# Altium schematic symbol library carrot_lib.SchLib: 176 symbols (part 2 of 3)
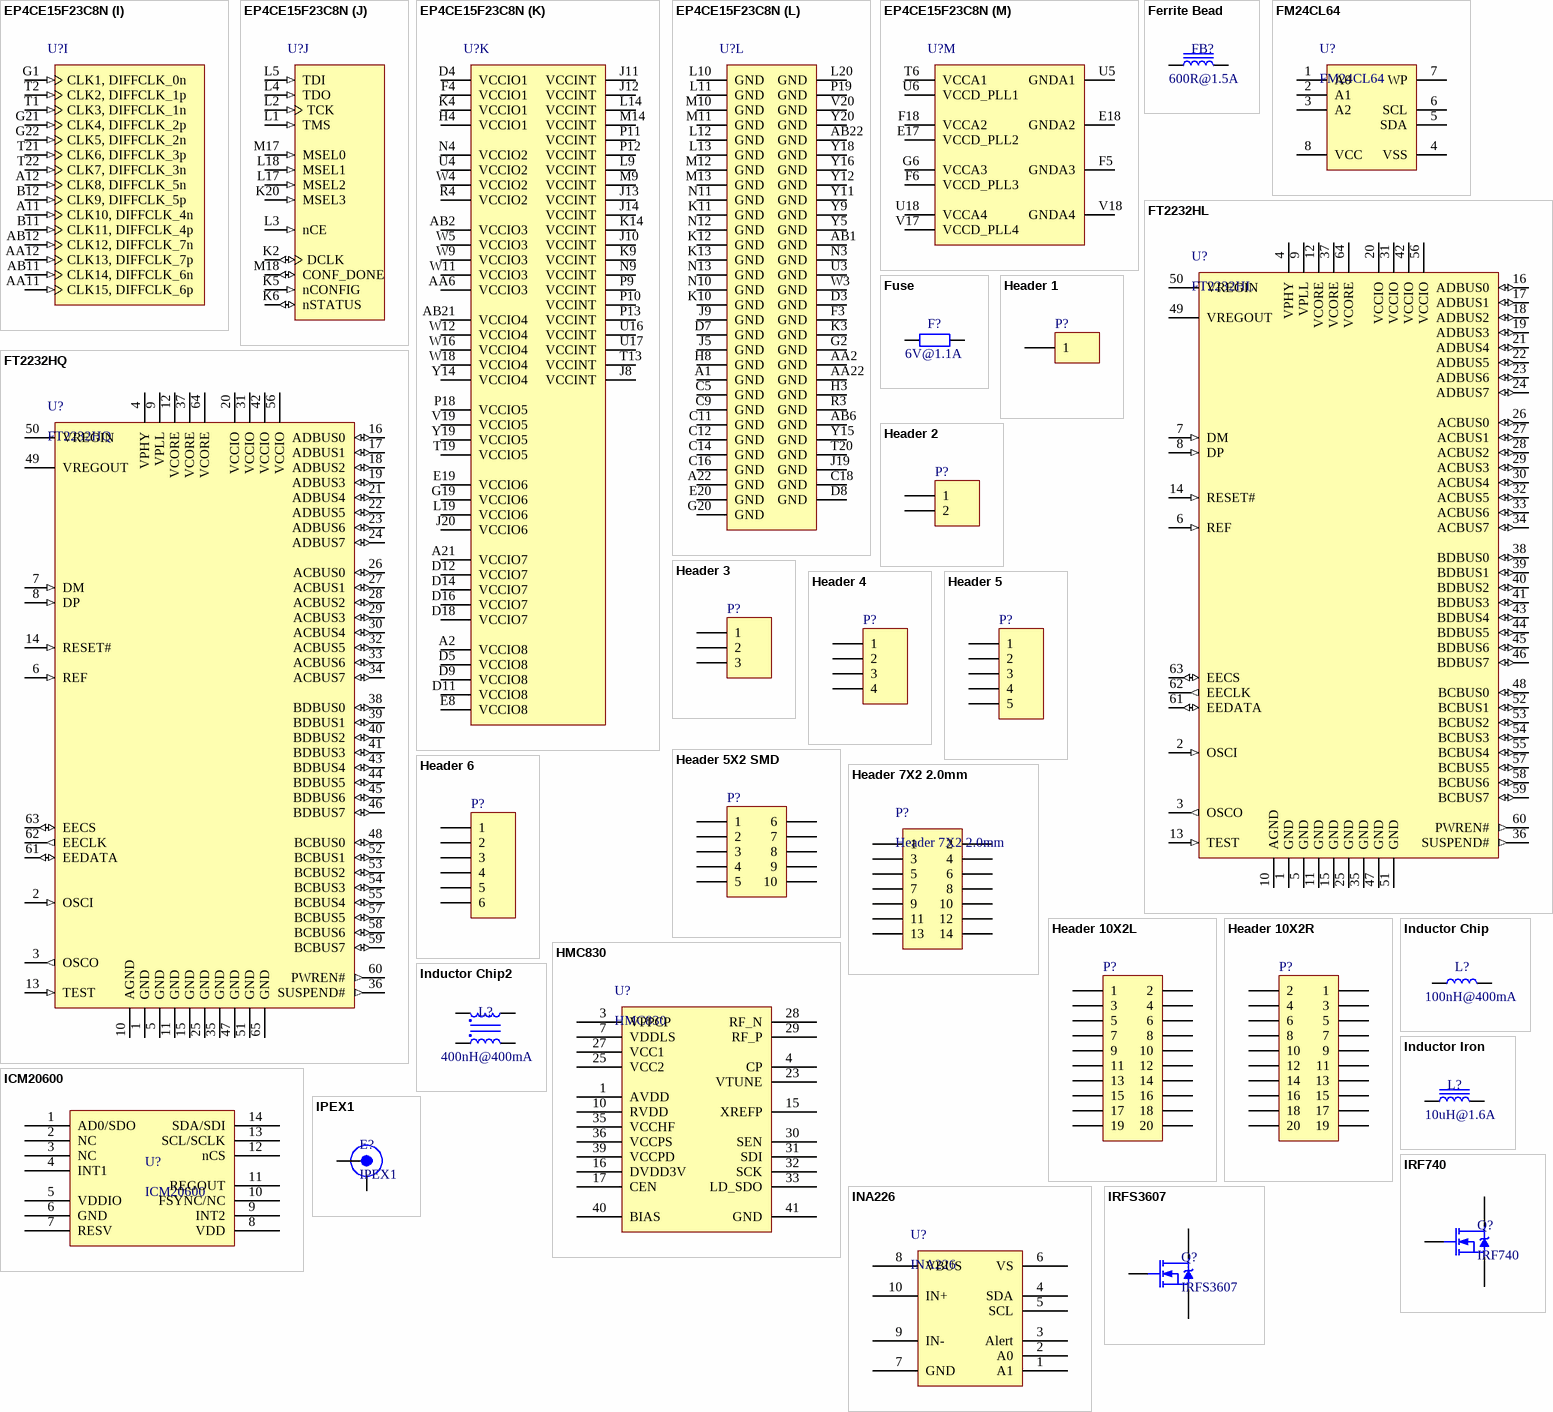
[diagram p11: symbols EP4CE15F23C8N to IRFS3607]

## EP4CE15F23C8N
designator U?
Cyclone IV Family FPGA, 1.2V Core, 343 I/O Pins, 4 PLLs, 484-Pin FBGA, Speed Grade 8, Commercial Grade, Pb-Free; Manufacturer: Altera; DatasheetVersion: ver1.6, Nov-2011; PackageVersion: ver1.0, Jun-2011; PackageReference: FBGA484_A-240; PackageDescription: 484-Pin FineLine Ball Grid Array (FBGA) - Wire Bond - A:2.40; Code_JEDEC: MS-034-AAJ-1; ComponentLink1Description: Manufacturer URL; ComponentLink1URL: http://www.altera.com/; ComponentLink2Description: Handbook; ComponentLink2URL: http://www.altera.com/literature/hb/cyclone-iv/cyclone4-handbook.pdf; ComponentLink3Description: Pinout; ComponentLink3URL: http://www.altera.com/literature/lit-dp.jsp?category=cyc%204&showspreadsheet=y; ComponentLink4Description: Package Specification; ComponentLink4URL: http://www.altera.com/devicepackaging/04R00247-02.pdf
footprint EP4CE15F23C8N-FBGA484 (BGA, 484-Leads, Body 23x23mm, Pitch 1mm)
part A pins: B1 IO, DIFFIO_L1n, (DQ2L)/(DQ1L)/(DQ1L) (io), B2 IO, DIFFIO_L1p, (DQ2L)/(DQ1L)/(DQ1L) (io), C1 IO, DIFFIO_L3n, (DQ2L)/(DQ1L)/(DQ1L) (io), C2 IO, DIFFIO_L3p, (DQS2L/CQ3L,CDPCLK0)/(DQS2L/CQ3L,CDPCLK0)/(DQS2L/CQ3L,CDPCLK0) (io), D1 IO, DIFFIO_L4n, (DATA1,ASDO) (io), D2 IO, DIFFIO_L4p, (DQ2L)/(DQ1L)/(DQ1L) (io), E1 IO, DIFFIO_L6n, (_)/(DQ1L)/(DQ1L) (io), E2 IO, DIFFIO_L6p, (FLASH_nCE,nCSO) (io), E3 IO, DIFFIO_L2n, (DQ2L)/(DQ1L)/(DQ1L) (io), E4 IO, DIFFIO_L2p, (nRESET), (DQ2L)/(DQ1L)/(DQ1L) (io), F1 IO, DIFFIO_L7n, (DQ0L)/(DQ1L)/(DQ1L) (io), F2 IO, DIFFIO_L7p, (DM2L)/(DM1L/BWS#1L)/(DM1L/BWS#1L) (io), G3 IO, DIFFIO_L8n (io), G4 IO, DIFFIO_L8p (io), G5 IO (io), H1 IO, DIFFIO_L11n, (DQ0L)/(DQ1L)/(DQ1L) (io), H2 IO, DIFFIO_L11p, (DQ0L)/(DQ1L)/(DQ1L) (io), H5 IO (io), H6 IO, DIFFIO_L5p, (DQ2L)/(DQ1L)/(DQ1L) (io), H7 IO, VREFB1N0 (io), J1 IO, DIFFIO_L12n, (DQ0L)/(DQ1L)/(DQ1L) (io), J2 IO, DIFFIO_L12p, (DQ0L)/(DQ1L)/(DQ1L) (io), J3 IO, VREFB1N1 (io), J4 IO, (DQS0L/CQ1L,DPCLK0)/(DQS0L/CQ1L,DPCLK0)/(DQS0L/CQ1L,DPCLK0) (io), J6 IO, DIFFIO_L5n, (DQ2L)/(DQ1L)/(DQ1L) (io), J7 IO, DIFFIO_L10p (io), K1 IO, (DATA0) (io), K7 IO, DIFFIO_L10n (io), K8 IO, DIFFIO_L9n (io), L8 IO, DIFFIO_L9p (io)
part B pins: AA1 IO, DIFFIO_L27n, (DQ3L)/(DQ3L)/(DQ1L) (io), L6 IO, DIFFIO_L13p, (DQ0L)/(DQ1L)/(DQ1L) (io), L7 IO (io), M1 IO, DIFFIO_L14n, (_)/(DQ1L)/(DQ1L) (io), M2 IO, DIFFIO_L14p, (DQ0L)/(DQ1L)/(DQ1L) (io), M3 IO, DIFFIO_L15n, (DQ1L)/(DQ3L)/(DQ1L) (io), M4 IO, DIFFIO_L15p, (DM0L)/(DM1L/BWS#1L)/(DM1L/BWS#1L) (io), M5 IO, VREFB2N0 (io), M6 IO, DIFFIO_L13n, (DQ0L)/(DQ1L)/(DQ1L) (io), M7 IO, DIFFIO_L22n (io), M8 IO, DIFFIO_L23p (io), N1 IO, DIFFIO_L16n, (DQ1L)/(DQ3L)/(DQ1L) (io), N2 IO, DIFFIO_L16p, (DQ1L)/(DQ3L)/(DQ1L) (io), N5 IO, (DQ1L)/(DQ3L)/(DQ1L) (io), N6 IO, DIFFIO_L22p, (DQ3L)/(DQ3L)/(DQ1L) (io), N7 IO, DIFFIO_L26p (io), N8 IO, DIFFIO_L23n (io), P1 IO, DIFFIO_L17n, (DQ1L)/(DQ3L)/(DQ1L) (io), P2 IO, DIFFIO_L17p, (DQ1L)/(DQ3L)/(DQ1L) (io), P3 IO, DIFFIO_L19n, (DQ1L)/(DQ3L)/(DQ1L) (io), P4 IO, DIFFIO_L19p, (DQS1L/CQ1L#,DPCLK1)/(DQS1L/CQ1L#,DPCLK1)/(DQS1L/CQ1L#,DPCLK1) (io), P5 IO (io), P6 IO, DIFFIO_L28p (io), P7 IO, DIFFIO_L26n (io), P8 IO, DIFFIO_L31p (io), R1 IO, DIFFIO_L18n, (DQ1L)/(DQ3L)/(DQ1L) (io), R2 IO, DIFFIO_L18p, (DQ1L)/(DQ3L)/(DQ1L) (io), R5 IO, DIFFIO_L28n (io), R6 IO, DIFFIO_L29n (io), R7 IO, DIFFIO_L30p (io), R8 IO, DIFFIO_L31n (io), T3 IO, VREFB2N1 (io), T4 IO, (DQS3L/CQ3L#,CDPCLK1)/(DQS3L/CQ3L#,CDPCLK1)/(DQS3L/CQ3L#,CDPCLK1) (io), T5 IO, DIFFIO_L29p, (DM3L/BWS#3L)/(DM3L/BWS#3L)/(DM1L/BWS#1L) (io), T7 IO, DIFFIO_L30n (io), U1 IO, DIFFIO_L20n, (DQ3L)/(DQ3L)/(DQ1L) (io), U2 IO, DIFFIO_L20p, (DM1L/BWS#1L)/(DM3L/BWS#3L)/(DM1L/BWS#1L) (io), V1 IO, DIFFIO_L21n, (DQ3L)/(DQ3L)/(DQ1L) (io), V2 IO, DIFFIO_L21p, (DQ3L)/(DQ3L)/(DQ1L) (io), V3 IO, RDN1 (io), V4 IO, RUP1 (io), W1 IO, DIFFIO_L24n, (DQ3L)/(DQ3L)/(DQ1L) (io), W2 IO, DIFFIO_L24p, (DQ3L)/(DQ3L)/(DQ1L) (io), Y1 IO, DIFFIO_L25n, (DQ3L)/(DQ3L)/(DQ1L) (io), Y2 IO, DIFFIO_L25p, (DQ3L)/(DQ3L)/(DQ1L) (io)
part C pins: AA3 IO, PLL1_CLKOUTp (io), AA4 IO, DIFFIO_B8p, (DQ3B)/(DQ3B)/(DQ5B) (io), AA5 IO, DIFFIO_B9p, (DQ3B)/(DQ3B)/(DQ5B) (io), AA7 IO, DIFFIO_B12p, (DM5B/BWS#5B)/(DM3B/BWS#3B)/(DM5B/BWS#5B) (io), AA8 IO, DIFFIO_B15p, (DQ5B)/(DQ3B)/(DQ5B) (io), AA9 IO, DIFFIO_B16p, (DQ5B)/(DQ3B)/(DQ5B) (io), AA10 IO, DIFFIO_B18n, (DM4B)/(DM5B/BWS#5B)/(DM5B/BWS#5B) (io), AB3 IO, PLL1_CLKOUTn (io), AB4 IO, DIFFIO_B8n (io), AB5 IO, DIFFIO_B9n (io), AB7 IO, DIFFIO_B12n, (DQ5B)/(DQ3B)/(DQ5B) (io), AB8 IO, DIFFIO_B15n, (DQ5B)/(DQ3B)/(DQ5B) (io), AB9 IO, DIFFIO_B16n, (DQS5B/CQ5B#,DPCLK3)/(DQS5B/CQ5B#,DPCLK3)/(DQS5B/CQ5B#,DPCLK3) (io), AB10 IO, (_)/(DQ5B)/(DQ5B) (io), R9 IO, DIFFIO_B1p (io), R10 IO, DIFFIO_B2p (io), R11 IO, DIFFIO_B5p (io), R12 IO, DIFFIO_B5n (io), T8 IO, DIFFIO_B1n (io), T9 IO, DIFFIO_B2n (io), T10 IO, DIFFIO_B14p (io), T11 IO (io), U7 IO, DIFFIO_B4p (io), U8 IO, DIFFIO_B4n (io), U9 IO, DIFFIO_B11p, (DQ3B)/(DQ3B)/(DQ5B) (io), U10 IO, DIFFIO_B14n, (DQ5B)/(DQ3B)/(DQ5B) (io), U11 IO (io), V5 IO, DIFFIO_B3n, (DM3B/BWS#3B)/(DM3B/BWS#3B)/(DM5B/BWS#5B) (io), V6 IO, DIFFIO_B3p (io), V7 IO, DIFFIO_B7n (io), V8 IO, DIFFIO_B11n, (DQ3B)/(DQ3B)/(DQ5B) (io), V9 IO, VREFB3N0 (io), V10 IO, (DQS3B/CQ3B#,DPCLK2)/(DQS3B/CQ3B#,DPCLK2)/(DQS3B/CQ3B#,DPCLK2) (io), V11 IO, DIFFIO_B17p, (DQ5B)/(DQ3B)/(DQ5B) (io), W6 IO, DIFFIO_B7p, (DQ3B)/(DQ3B)/(DQ5B) (io), W7 IO, DIFFIO_B10p, (DQ3B)/(DQ3B)/(DQ5B) (io), W8 IO, (DQ3B)/(DQ3B)/(DQ5B) (io), W10 IO, DIFFIO_B17n, (DQ5B)/(DQ3B)/(DQ5B) (io), Y3 IO, DIFFIO_B6p, (DQ3B)/(DQ3B)/(DQ5B) (io), Y4 IO, VREFB3N1 (io), Y6 IO, (DQS1B/CQ1B#,CDPCLK2)/(DQS1B/CQ1B#,CDPCLK2)/(DQS1B/CQ1B#,CDPCLK2) (io), Y7 IO, DIFFIO_B10n, (DQ3B)/(DQ3B)/(DQ5B) (io), Y8 IO, DIFFIO_B13p, (DQ5B)/(DQ3B)/(DQ5B) (io), Y10 IO, DIFFIO_B18p, (DQ5B)/(DQ3B)/(DQ5B) (io)
part D pins: AA13 IO, DIFFIO_B19p, (DQ4B)/(DQ5B)/(DQ5B) (io), AA14 IO, DIFFIO_B20p, (DQ4B)/(DQ5B)/(DQ5B) (io), AA15 IO, DIFFIO_B22p, (DQ4B)/(DQ5B)/(DQ5B) (io), AA16 IO, DIFFIO_B24p, (DM2B)/(DM5B/BWS#5B)/(DM5B/BWS#5B) (io), AA17 IO, DIFFIO_B25p (io), AA18 IO (io), AA19 IO, RUP2 (io), AA20 IO, DIFFIO_B30p, (_)/(DQ5B)/(DQ5B) (io), AB13 IO, DIFFIO_B19n, (DQ4B)/(DQ5B)/(DQ5B) (io), AB14 IO, DIFFIO_B20n, (DQ4B)/(DQ5B)/(DQ5B) (io), AB15 IO, DIFFIO_B22n, (DQ4B)/(DQ5B)/(DQ5B) (io), AB16 IO, DIFFIO_B24n, (DQ2B)/(DQ5B)/(DQ5B) (io), AB17 IO, DIFFIO_B25n (io), AB18 IO, (DQ2B)/(DQ5B)/(DQ5B) (io), AB19 IO, RDN2 (io), AB20 IO, DIFFIO_B30n, (DQ2B)/(DQ5B)/(DQ5B) (io), R13 IO (io), R14 IO, DIFFIO_B32p (io), R15 IO, DIFFIO_B32n (io), R16 IO, PLL4_CLKOUTn (io), T12 IO, DIFFIO_B23n (io), T14 IO, DIFFIO_B28p (io), T15 IO, DIFFIO_B28n, (DQ2B)/(DQ5B)/(DQ5B) (io), T16 IO, PLL4_CLKOUTp (io), U12 IO, DIFFIO_B23p, (DQ4B)/(DQ5B)/(DQ5B) (io), U13 IO, DIFFIO_B26p (io), U14 IO, DIFFIO_B31n (io), U15 IO, DIFFIO_B31p (io), V12 IO (io), V13 IO, (DQS2B/CQ3B,DPCLK5)/(DQS2B/CQ3B,DPCLK5)/(DQS2B/CQ3B,DPCLK5) (io), V14 IO, DIFFIO_B26n, (DQ2B)/(DQ5B)/(DQ5B) (io), V15 IO, DIFFIO_B27p, (DQ2B)/(DQ5B)/(DQ5B) (io), V16 IO, VREFB4N0 (io), W13 IO, DIFFIO_B21p, (DQ4B)/(DQ5B)/(DQ5B) (io), W14 IO, VREFB4N1 (io), W15 IO, DIFFIO_B27n, (DQ2B)/(DQ5B)/(DQ5B) (io), W17 IO, DIFFIO_B29p, (DQ2B)/(DQ5B)/(DQ5B) (io), Y13 IO, DIFFIO_B21n, (DQS4B/CQ5B,DPCLK4)/(DQS4B/CQ5B,DPCLK4)/(DQS4B/CQ5B,DPCLK4) (io), Y17 IO, DIFFIO_B29n, (DQS0B/CQ1B,CDPCLK3)/(DQS0B/CQ1B,CDPCLK3)/(DQS0B/CQ1B,CDPCLK3) (io)
part E pins: AA21 IO, DIFFIO_R35p, (DM3R/BWS#3R)/(DM3R/BWS#3R)/(DM1R/BWS#1R) (io), M15 IO, DIFFIO_R29n (io), M16 IO (io), M19 IO, DIFFIO_R19p, (DQ1R)/(DQ3R)/(DQ1R) (io), M20 IO, DIFFIO_R19n, (DQ1R)/(DQ3R)/(DQ1R) (io), M21 IO, DIFFIO_R20p, (DQ1R)/(DQ3R)/(DQ1R) (io), M22 IO, DIFFIO_R20n, (DQ1R)/(DQ3R)/(DQ1R) (io), N14 IO (io), N15 IO, DIFFIO_R29p (io), N16 IO (io), N17 IO, DIFFIO_R22n (io), N18 IO, DIFFIO_R22p, (DQS1R/CQ1R#,DPCLK6)/(DQS1R/CQ1R#,DPCLK6)/(DQS1R/CQ1R#,DPCLK6) (io), N19 IO, DIFFIO_R23p (io), N20 IO, DIFFIO_R23n, (DQ1R)/(DQ3R)/(DQ1R) (io), N21 IO, DIFFIO_R21p, (DEV_CLRn) (io), N22 IO, DIFFIO_R21n, (DEV_OE) (io), P14 IO (io), P15 IO, DIFFIO_R30n (io), P16 IO, DIFFIO_R30p (io), P17 IO (io), P20 IO, VREFB5N0 (io), P21 IO, DIFFIO_R24p, (DQ1R)/(DQ3R)/(DQ1R) (io), P22 IO, DIFFIO_R24n, (DQ1R)/(DQ3R)/(DQ1R) (io), R17 IO, VREFB5N1 (io), R18 IO, DIFFIO_R26n (io), R19 IO, DIFFIO_R26p, (DM1R/BWS#1R)/(DM3R/BWS#3R)/(DM1R/BWS#1R) (io), R20 IO, (DQ3R)/(DQ3R)/(DQ1R) (io), R21 IO, DIFFIO_R25p, (DQ1R)/(DQ3R)/(DQ1R) (io), R22 IO, DIFFIO_R25n, (DQ1R)/(DQ3R)/(DQ1R) (io), T17 IO, RUP3 (io), T18 IO, RDN3 (io), U19 IO, DIFFIO_R32p (io), U20 IO, DIFFIO_R32n, (DQ3R)/(DQ3R)/(DQ1R) (io), U21 IO, DIFFIO_R27p, (DQ3R)/(DQ3R)/(DQ1R) (io), U22 IO, DIFFIO_R27n, (DQ3R)/(DQ3R)/(DQ1R) (io), V21 IO, DIFFIO_R28p, (DQ3R)/(DQ3R)/(DQ1R) (io), V22 IO, DIFFIO_R28n, (DQ3R)/(DQ3R)/(DQ1R) (io), W19 IO, DIFFIO_R34p (io), W20 IO, DIFFIO_R34n, (DQS3R/CQ3R#,CDPCLK4)/(DQS3R/CQ3R#,CDPCLK4)/(DQS3R/CQ3R#,CDPCLK4) (io), W21 IO, DIFFIO_R31p, (DQ3R)/(DQ3R)/(DQ1R) (io), W22 IO, DIFFIO_R31n, (DQ3R)/(DQ3R)/(DQ1R) (io), Y21 IO, DIFFIO_R33p (io), Y22 IO, DIFFIO_R33n, (DQ3R)/(DQ3R)/(DQ1R) (io)
part F pins: B21 IO, DIFFIO_R3p, (PADD21), (DQ2R)/(DQ1R)/(DQ1R) (io), B22 IO, DIFFIO_R3n, (PADD22), (DQ2R)/(DQ1R)/(DQ1R) (io), C20 IO, DIFFIO_R2n, (PADD20), (DQS2R/CQ3R,CDPCLK5)/(DQS2R/CQ3R,CDPCLK5)/(DQS2R/CQ3R,CDPCLK5) (io), C21 IO, DIFFIO_R4p, (DQ2R)/(DQ1R)/(DQ1R) (io), C22 IO, DIFFIO_R4n, (DQ2R)/(DQ1R)/(DQ1R) (io), D20 IO, DIFFIO_R2p (io), D21 IO, DIFFIO_R7p, (_)/(DQ1R)/(DQ1R) (io), D22 IO, DIFFIO_R7n, (DM2R)/(DM1R/BWS#1R)/(DM1R/BWS#1R) (io), E21 IO, DIFFIO_R9p, (nOE), (_)/(DQ1R)/(DQ1R) (io), E22 IO, DIFFIO_R9n, (nWE), (DQ0R)/(DQ1R)/(DQ1R) (io), F17 IO, DIFFIO_R1n, (DQ2R)/(DQ1R)/(DQ1R) (io), F19 IO, DIFFIO_R6p, (DQ2R)/(DQ1R)/(DQ1R) (io), F20 IO, DIFFIO_R6n, (nAVD), (DQ2R)/(DQ1R)/(DQ1R) (io), F21 IO, DIFFIO_R11p, (DQ0R)/(DQ1R)/(DQ1R) (io), F22 IO, DIFFIO_R11n, (DQ0R)/(DQ1R)/(DQ1R) (io), G17 IO, DIFFIO_R1p (io), G18 IO, DIFFIO_R5n, (PADD23), (DQ2R)/(DQ1R)/(DQ1R) (io), H16 IO, DIFFIO_R8p (io), H17 IO, DIFFIO_R5p (io), H18 IO, VREFB6N0 (io), H19 IO, DIFFIO_R10p, (DQ0R)/(DQ1R)/(DQ1R) (io), H20 IO, DIFFIO_R10n, (DQ0R)/(DQ1R)/(DQ1R) (io), H21 IO, DIFFIO_R13p, (DQ0R)/(DQ1R)/(DQ1R) (io), H22 IO, DIFFIO_R13n, (DQ0R)/(DQ1R)/(DQ1R) (io), J15 IO (io), J16 IO, DIFFIO_R14n (io), J17 IO, DIFFIO_R8n (io), J18 IO (io), J21 IO, DIFFIO_R15p, (DM0R)/(DM1R/BWS#1R)/(DM1R/BWS#1R) (io), J22 IO, DIFFIO_R15n, (DQS0R/CQ1R,DPCLK7)/(DQS0R/CQ1R,DPCLK7)/(DQS0R/CQ1R,DPCLK7) (io), K15 IO (io), K16 IO, DIFFIO_R14p (io), K17 IO, DIFFIO_R12n (io), K18 IO, DIFFIO_R12p, (DQ0R)/(DQ1R)/(DQ1R) (io), K19 IO, VREFB6N1 (io), K21 IO, DIFFIO_R16p, (CLKUSR) (io), K22 IO, DIFFIO_R16n, (nCEO) (io), L15 IO, DIFFIO_R18p (io), L16 IO, DIFFIO_R18n (io), L21 IO, DIFFIO_R17p, (CRC_ERROR) (io), L22 IO, DIFFIO_R17n, (INIT_DONE) (io)
part G pins: A13 IO, DIFFIO_T17n, (PADD11), (DQ4T)/(DQ5T)/(DQ5T) (io), A14 IO, DIFFIO_T18n, (PADD9), (DQ4T)/(DQ5T)/(DQ5T) (io), A15 IO, DIFFIO_T20n, (PADD5), (DQ4T)/(DQ5T)/(DQ5T) (io), A16 IO, DIFFIO_T24n, (DM2T)/(DM5T/BWS#5T)/(DM5T/BWS#5T) (io), A17 IO, DIFFIO_T25n, (PADD1), (DQ2T)/(DQ5T)/(DQ5T) (io), A18 IO, DIFFIO_T27n, (DQ2T)/(DQ5T)/(DQ5T) (io), A19 IO, RDN4 (io), A20 IO, PLL2_CLKOUTn (io), B13 IO, DIFFIO_T17p, (PADD12), (DQS4T/CQ5T,DPCLK9)/(DQS4T/CQ5T,DPCLK9)/(DQS4T/CQ5T,DPCLK9) (io), B14 IO, DIFFIO_T18p, (PADD10), (DQ4T)/(DQ5T)/(DQ5T) (io), B15 IO, DIFFIO_T20p, (PADD6), (DQ4T)/(DQ5T)/(DQ5T) (io), B16 IO, DIFFIO_T24p, (DQ4T)/(DQ5T)/(DQ5T) (io), B17 IO, DIFFIO_T25p, (PADD2), (_)/(DQ5T)/(DQ5T) (io), B18 IO, DIFFIO_T27p, (PADD0) (io), B19 IO, RUP4 (io), B20 IO, PLL2_CLKOUTp (io), C13 IO, DIFFIO_T19n, (PADD7) (io), C15 IO, VREFB7N1 (io), C17 IO, (DQ2T)/(DQ5T)/(DQ5T) (io), C19 IO, DIFFIO_T29n, (DQ2T)/(DQ5T)/(DQ5T) (io), D13 IO, DIFFIO_T19p, (PADD8), (DQ4T)/(DQ5T)/(DQ5T) (io), D15 IO, DIFFIO_T26n (io), D17 IO, VREFB7N0 (io), D19 IO, DIFFIO_T29p, (DQ2T)/(DQ5T)/(DQ5T) (io), E11 IO, DIFFIO_T16n, (PADD13) (io), E12 IO, (_)/(DQ5T)/(DQ5T) (io), E13 IO (io), E14 IO, DIFFIO_T23n, (PADD3), (DQ4T)/(DQ5T)/(DQ5T) (io), E15 IO, DIFFIO_T26p, (DQ2T)/(DQ5T)/(DQ5T) (io), E16 IO, DIFFIO_T32p, (DQ2T)/(DQ5T)/(DQ5T) (io), F11 IO, DIFFIO_T16p, (PADD14), (DM4T)/(DM5T/BWS#5T)/(DM5T/BWS#5T) (io), F12 IO, DIFFIO_T23p (io), F13 IO, DIFFIO_T21p, (PADD4), (DQS2T/CQ3T,DPCLK8)/(DQS2T/CQ3T,DPCLK8)/(DQS2T/CQ3T,DPCLK8) (io), F14 IO, DIFFIO_T30p, (DQS0T/CQ1T,CDPCLK6)/(DQS0T/CQ1T,CDPCLK6)/(DQS0T/CQ1T,CDPCLK6) (io), F15 IO, DIFFIO_T31n, (DQ2T)/(DQ5T)/(DQ5T) (io), F16 IO, DIFFIO_T32n (io), G12 IO, DIFFIO_T21n (io), G13 IO (io), G14 IO (io), G15 IO, DIFFIO_T30n (io), G16 IO, DIFFIO_T31p (io), H12 IO, DIFFIO_T22p (io), H13 IO, DIFFIO_T22n (io), H14 IO, DIFFIO_T28p (io), H15 IO, DIFFIO_T28n (io)
part H pins: A3 IO, DIFFIO_T3n, (DATA10), (DQ3T)/(DQ3T)/(DQ5T) (io), A4 IO, DIFFIO_T5n, (DQ3T)/(DQ3T)/(DQ5T) (io), A5 IO, (DATA5), (DQ3T)/(DQ3T)/(DQ5T) (io), A6 IO, DIFFIO_T10n, (PADD19), (DQ5T)/(DQ3T)/(DQ5T) (io), A7 IO, DIFFIO_T11n, (PADD18), (DQ5T)/(DQ3T)/(DQ5T) (io), A8 IO, DIFFIO_T12n, (DATA2), (DQ5T)/(DQ3T)/(DQ5T) (io), A9 IO, DIFFIO_T13n, (PADD16), (DQ5T)/(DQ3T)/(DQ5T) (io), A10 IO, DIFFIO_T14n, (DQ5T)/(DQ3T)/(DQ5T) (io), B3 IO, DIFFIO_T3p, (DATA11), (DQ3T)/(DQ3T)/(DQ5T) (io), B4 IO, DIFFIO_T5p, (DATA8), (DQ3T)/(DQ3T)/(DQ5T) (io), B5 IO (io), B6 IO, DIFFIO_T10p, (DATA15), (DQ5T)/(DQ3T)/(DQ5T) (io), B7 IO, DIFFIO_T11p, (DATA4), (DQ5T)/(DQ3T)/(DQ5T) (io), B8 IO, DIFFIO_T12p, (DATA3), (DQ5T)/(DQ3T)/(DQ5T) (io), B9 IO, DIFFIO_T13p, (PADD17), (DQS5T/CQ5T#,DPCLK10)/(DQS5T/CQ5T#,DPCLK10)/(DQS5T/CQ5T#,DPCLK10) (io), B10 IO, DIFFIO_T14p, (PADD15) (io), C3 IO, DIFFIO_T2n, (DQ3T)/(DQ3T)/(DQ5T) (io), C4 IO, DIFFIO_T2p, (DATA12), (DQS1T/CQ1T#,CDPCLK7)/(DQS1T/CQ1T#,CDPCLK7)/(DQS1T/CQ1T#,CDPCLK7) (io), C6 IO, (DATA7), (DQ3T)/(DQ3T)/(DQ5T) (io), C7 IO, DIFFIO_T9p, (DATA13), (DM5T/BWS#5T)/(DM3T/BWS#3T)/(DM5T/BWS#5T) (io), C8 IO, DIFFIO_T9n, (DATA14), (DQS3T/CQ3T#,DPCLK11)/(DQS3T/CQ3T#,DPCLK11)/(DQS3T/CQ3T#,DPCLK11) (io), C10 IO (io), D6 IO, VREFB8N1 (io), D10 IO, DIFFIO_T15n, (DQ5T)/(DQ3T)/(DQ5T) (io), E5 IO, PLL3_CLKOUTp (io), E6 IO, PLL3_CLKOUTn (io), E7 IO (io), E9 IO, VREFB8N0 (io), E10 IO, DIFFIO_T15p (io), F7 IO, DIFFIO_T1n, (DM3T/BWS#3T)/(DM3T/BWS#3T)/(DM5T/BWS#5T) (io), F8 IO, DIFFIO_T4n, (DATA9), (DQ3T)/(DQ3T)/(DQ5T) (io), F9 IO, DIFFIO_T6n (io), F10 IO, DIFFIO_T6p, (DATA6), (DQ3T)/(DQ3T)/(DQ5T) (io), G7 IO, DIFFIO_T1p (io), G8 IO, DIFFIO_T4p (io), G9 IO, DIFFIO_T8p (io), G10 IO, DIFFIO_T8n (io), G11 IO (io), H9 IO, DIFFIO_T7p (io), H10 IO, DIFFIO_T7n (io), H11 IO (io)
part I pins: A11 CLK10, DIFFCLK_4n (in), A12 CLK8, DIFFCLK_5n (in), AA11 CLK15, DIFFCLK_6p (in), AA12 CLK13, DIFFCLK_7p (in), AB11 CLK14, DIFFCLK_6n (in), AB12 CLK12, DIFFCLK_7n (in), B11 CLK11, DIFFCLK_4p (in), B12 CLK9, DIFFCLK_5p (in), G1 CLK1, DIFFCLK_0n (in), G21 CLK4, DIFFCLK_2p (in), G22 CLK5, DIFFCLK_2n (in), T1 CLK3, DIFFCLK_1n (in), T2 CLK2, DIFFCLK_1p (in), T21 CLK6, DIFFCLK_3p (in), T22 CLK7, DIFFCLK_3n (in)
part J pins: K2 DCLK (io), K5 nCONFIG (in), K6 nSTATUS (io), K20 MSEL3 (in), L1 TMS (in), L2 TCK (in), L3 nCE (in), L4 TDO (in), L5 TDI (in), L17 MSEL2 (in), L18 MSEL1 (in), M17 MSEL0 (in), M18 CONF_DONE (io)
part K pins: A2 VCCIO8 (power), A21 VCCIO7 (power), AA6 VCCIO3 (power), AB2 VCCIO3 (power), AB21 VCCIO4 (power), D4 VCCIO1 (power), D5 VCCIO8 (power), D9 VCCIO8 (power), D11 VCCIO8 (power), D12 VCCIO7 (power), D14 VCCIO7 (power), D16 VCCIO7 (power), D18 VCCIO7 (power), E8 VCCIO8 (power), E19 VCCIO6 (power), F4 VCCIO1 (power), G19 VCCIO6 (power), H4 VCCIO1 (power), J8 VCCINT (power), J10 VCCINT (power), J11 VCCINT (power), J12 VCCINT (power), J13 VCCINT (power), J14 VCCINT (power), J20 VCCIO6 (power), K4 VCCIO1 (power), K9 VCCINT (power), K14 VCCINT (power), L9 VCCINT (power), L14 VCCINT (power), L19 VCCIO6 (power), M9 VCCINT (power), M14 VCCINT (power), N4 VCCIO2 (power), N9 VCCINT (power), P9 VCCINT (power), P10 VCCINT (power), P11 VCCINT (power), P12 VCCINT (power), P13 VCCINT (power), P18 VCCIO5 (power), R4 VCCIO2 (power), T13 VCCINT (power), T19 VCCIO5 (power), U4 VCCIO2 (power), U16 VCCINT (power), U17 VCCINT (power), V19 VCCIO5 (power), W4 VCCIO2 (power), W5 VCCIO3 (power), W9 VCCIO3 (power), W11 VCCIO3 (power), W12 VCCIO4 (power), W16 VCCIO4 (power), W18 VCCIO4 (power), Y14 VCCIO4 (power), Y19 VCCIO5 (power)
part L pins: A1 GND (power), A22 GND (power), AA2 GND (power), AA22 GND (power), AB1 GND (power), AB6 GND (power), AB22 GND (power), C5 GND (power), C9 GND (power), C11 GND (power), C12 GND (power), C14 GND (power), C16 GND (power), C18 GND (power), D3 GND (power), D7 GND (power), D8 GND (power), E20 GND (power), F3 GND (power), G2 GND (power), G20 GND (power), H3 GND (power), H8 GND (power), J5 GND (power), J9 GND (power), J19 GND (power), K3 GND (power), K10 GND (power), K11 GND (power), K12 GND (power), K13 GND (power), L10 GND (power), L11 GND (power), L12 GND (power), L13 GND (power), L20 GND (power), M10 GND (power), M11 GND (power), M12 GND (power), M13 GND (power), N3 GND (power), N10 GND (power), N11 GND (power), N12 GND (power), N13 GND (power), P19 GND (power), R3 GND (power), T20 GND (power), U3 GND (power), V20 GND (power), W3 GND (power), Y5 GND (power), Y9 GND (power), Y11 GND (power), Y12 GND (power), Y15 GND (power), Y16 GND (power), Y18 GND (power), Y20 GND (power)
part M pins: E17 VCCD_PLL2 (power), E18 GNDA2 (power), F5 GNDA3 (power), F6 VCCD_PLL3 (power), F18 VCCA2 (power), G6 VCCA3 (power), T6 VCCA1 (power), U5 GNDA1 (power), U6 VCCD_PLL1 (power), U18 VCCA4 (power), V17 VCCD_PLL4 (power), V18 GNDA4 (power)
part A text: BANK 1
part B text: BANK 2
part C text: BANK 3
part D text: BANK 4
part E text: BANK 5
part F text: BANK 6
part G text: BANK 7
part H text: BANK 8

## Ferrite Bead
designator FB?  value 600R@1.5A  (hidden comment: Ferrite Bead)
footprint FB0805 (Chip Inductor, 2-Leads, Body 2.00x1.20mm, IPC Medium Density)
footprint FB0603 (Chip Inductor, 2-Leads, Body 1.60x0.80mm, IPC Medium Density)
footprint FB1206 (Chip Inductor, 2-Leads, Body 3.20x1.60mm, IPC Medium Density)
footprint FB0402 (Chip Inductor, 2-Leads, Body 1.00x0.50mm, IPC Medium Density)
pins: 1, 2

## FM24CL64
designator U?
64Kb Serial 3V FRAM Memory
footprint FM24CL64-SOIC8 (SOIC, 8-Leads, Body 4.90x3.90mm, Pitch 1.27mm, IPC Medium Density)
pins: 1 A0 "Device Select Address", 2 A1 "Device Select Address", 3 A2 "Device Select Address", 4 VSS "Ground", 5 SDA "Serial Data/address", 6 SCL "Serial Clock", 7 WP "Write Protect", 8 VCC "Supply Voltage"

## FT2232HL
designator U?
Dual High Speed USB to Multipurpose UART/FIFO IC
footprint FT2232HL-LQFP64 (TSQFP, 64-Leads, Body 10.00x10.00mm, Pitch 0.50mm, IPC Medium Density)
pins: 1 GND (power), 2 OSCI (in), 3 OSCO (out), 4 VPHY (power), 5 GND (power), 6 REF (in), 7 DM (in), 8 DP (in), 9 VPLL (power), 10 AGND (power), 11 GND (power), 12 VCORE (power), 13 TEST (in), 14 RESET# (in), 15 GND (power), 16 ADBUS0 (io), 17 ADBUS1 (io), 18 ADBUS2 (io), 19 ADBUS3 (io), 20 VCCIO (power), 21 ADBUS4 (io), 22 ADBUS5 (io), 23 ADBUS6 (io), 24 ADBUS7 (io), 25 GND (power), 26 ACBUS0 (io), 27 ACBUS1 (io), 28 ACBUS2 (io), 29 ACBUS3 (io), 30 ACBUS4 (io), 31 VCCIO (power), 32 ACBUS5 (io), 33 ACBUS6 (io), 34 ACBUS7 (io), 35 GND (power), 36 SUSPEND# (out), 37 VCORE (power), 38 BDBUS0 (io), 39 BDBUS1 (io), 40 BDBUS2 (io), 41 BDBUS3 (io), 42 VCCIO (power), 43 BDBUS4 (io), 44 BDBUS5 (io), 45 BDBUS6 (io), 46 BDBUS7 (io), 47 GND (power), 48 BCBUS0 (io), 49 VREGOUT (power), 50 VREGIN (power), 51 GND (power), 52 BCBUS1 (io), 53 BCBUS2 (io), 54 BCBUS3 (io), 55 BCBUS4 (io), 56 VCCIO (power), 57 BCBUS5 (io), 58 BCBUS6 (io), 59 BCBUS7 (io), 60 PWREN# (out), 61 EEDATA (io), 62 EECLK (out), 63 EECS (io), 64 VCORE (power)

## FT2232HQ
designator U?
Dual High Speed USB to Multipurpose UART/FIFO IC
footprint FT2232HQ-QFN64 (QFN, 64-Leads, Body 9.00x9.00mm, Pitch 0.50mm, Thermal Pad 4.35x4.35mm, IPC Medium Density)
pins: 1 GND (power), 2 OSCI (in), 3 OSCO (out), 4 VPHY (power), 5 GND (power), 6 REF (in), 7 DM (in), 8 DP (in), 9 VPLL (power), 10 AGND (power), 11 GND (power), 12 VCORE (power), 13 TEST (in), 14 RESET# (in), 15 GND (power), 16 ADBUS0 (io), 17 ADBUS1 (io), 18 ADBUS2 (io), 19 ADBUS3 (io), 20 VCCIO (power), 21 ADBUS4 (io), 22 ADBUS5 (io), 23 ADBUS6 (io), 24 ADBUS7 (io), 25 GND (power), 26 ACBUS0 (io), 27 ACBUS1 (io), 28 ACBUS2 (io), 29 ACBUS3 (io), 30 ACBUS4 (io), 31 VCCIO (power), 32 ACBUS5 (io), 33 ACBUS6 (io), 34 ACBUS7 (io), 35 GND (power), 36 SUSPEND# (out), 37 VCORE (power), 38 BDBUS0 (io), 39 BDBUS1 (io), 40 BDBUS2 (io), 41 BDBUS3 (io), 42 VCCIO (power), 43 BDBUS4 (io), 44 BDBUS5 (io), 45 BDBUS6 (io), 46 BDBUS7 (io), 47 GND (power), 48 BCBUS0 (io), 49 VREGOUT (power), 50 VREGIN (power), 51 GND (power), 52 BCBUS1 (io), 53 BCBUS2 (io), 54 BCBUS3 (io), 55 BCBUS4 (io), 56 VCCIO (power), 57 BCBUS5 (io), 58 BCBUS6 (io), 59 BCBUS7 (io), 60 PWREN# (out), 61 EEDATA (io), 62 EECLK (out), 63 EECS (io), 64 VCORE (power), 65 GND (power)

## Fuse
designator F?  value 6V@1.1A  (hidden comment: Fuse)
footprint F1206 (Chip Fuse, 2-Leads, Body 3.20x1.60mm, IPC Medium Density)
footprint F1812 (Chip Resistor, 2-Leads, Body 4.50x3.20mm, IPC Medium Density)
footprint F0603 (Chip Resistor, 2-Leads, Body 1.60x0.80mm, IPC Medium Density)
footprint F0805 (Chip Resistor, 2-Leads, Body 2.00x1.25mm, IPC Medium Density)
footprint F1210 (Chip Resistor, 2-Leads, Body 3.20x2.50mm, IPC Medium Density)
pins: 1, 2

## Header 1
designator P?
Header, 1-Pin; LatestRevisionDate: 17-Jul-2002; LatestRevisionNote: Re-released for DXP Platform.; Publisher: Altium Limited
footprint HDR1X1 (Connector; Header; 1 Position)
pins: 1

## Header 2
designator P?
Header, 2-Pin; LatestRevisionDate: 17-Jul-2002; LatestRevisionNote: Re-released for DXP Platform.; Publisher: Altium Limited
footprint HDR1X2 (Connector; Header; 2 Position)
pins: 1, 2

## Header 3
designator P?
Header, 3-Pin; LatestRevisionDate: 17-Jul-2002; LatestRevisionNote: Re-released for DXP Platform.; Publisher: Altium Limited
footprint HDR1X3 (Connector; Header; 3 Position)
pins: 1, 2, 3

## Header 4
designator P?
Header, 4-Pin; LatestRevisionDate: 17-Jul-2002; LatestRevisionNote: Re-released for DXP Platform.; Publisher: Altium Limited
footprint HDR1X4 (Connector; Header; 4 Position)
pins: 1, 2, 3, 4

## Header 5
designator P?
Header, 5-Pin; LatestRevisionDate: 17-Jul-2002; LatestRevisionNote: Re-released for DXP Platform.; Publisher: Altium Limited
footprint HDR1X5 (Connector; Header; 5 Position)
pins: 1, 2, 3, 4, 5

## Header 5X2 SMD
designator P?
Header, 5-Pin, Dual row, SMD; LatestRevisionDate: 17-Jul-2002; LatestRevisionNote: Re-released for DXP Platform.; Publisher: Altium Limited
footprint HDR5X2_SMD (Connector; Header; 5x2 Position, SMD)
pins: 1, 2, 3, 4, 5, 6, 7, 8, 9, 10

## Header 6
designator P?
Header, 6-Pin; LatestRevisionDate: 17-Jul-2002; LatestRevisionNote: Re-released for DXP Platform.; Publisher: Altium Limited
footprint HDR1X6 (Connector; Header; 6 Position)
pins: 1, 2, 3, 4, 5, 6

## Header 7X2 2.0mm
designator P?
Header, 7-Pin, Dual row, 2.0mm
footprint HDR7X2_2.0MM (2.0mm脚距双排针)
pins: 1, 2, 3, 4, 5, 6, 7, 8, 9, 10, 11, 12, 13, 14

## Header 10X2L
designator P?
Header, 10-Pin, Dual row, Pin 1 on Left; LatestRevisionDate: 17-Jul-2002; LatestRevisionNote: Re-released for DXP Platform.; Publisher: Altium Limited
footprint HDR2X10LFL (Connector; Header; 10x2 Position; Right Angle; Female; Pin 1 on Left;)
footprint HDR2X10LML (Connector; Header; 10x2 Position; Right Angle; Male; Pin 1 on Left;)
pins: 1, 2, 3, 4, 5, 6, 7, 8, 9, 10, 11, 12, 13, 14, 15, 16, 17, 18, 19, 20

## Header 10X2R
designator P?
Header, 10-Pin, Dual row, Pin 1 on Right; LatestRevisionDate: 17-Jul-2002; LatestRevisionNote: Re-released for DXP Platform.; Publisher: Altium Limited
footprint HDR2X10LFR (Connector; Header; 10x2 Position; Right Angle; Female; Pin 1 on Right;)
footprint HDR2X10LMR (Connector; Header; 10x2 Position; Right Angle; Male; Pin 1 on Right;)
pins: 1, 2, 3, 4, 5, 6, 7, 8, 9, 10, 11, 12, 13, 14, 15, 16, 17, 18, 19, 20

## HMC830
designator U?
Fractional-N PLL with Integrated VCO, 25 - 3000 MHz
footprint HMC830 (QFN, 40-Leads, Body 6.00x6.00mm, Pitch 0.50mm, Thermal Pad 4.70x4.70mm, IPC Medium Density)
pins: 1 AVDD "DC Power Supply for analog circuitry.", 3 VPPCP "Power Supply for charge pump analog section", 4 CP "Charge Pump Output", 7 VDDLS "Power Supply for the charge pump digital section", 10 RVDD "Reference Supply", 15 XREFP "Reference Oscillator Input", 16 DVDD3V "DC Power Supply for Digital (CMOS) Circuitry", 17 CEN "Chip Enable. Connect to logic high for normal operation.", 23 VTUNE "VCO Varactor. Tuning Port Input.", 25 VCC2 "VCO Analog Supply 2", 27 VCC1 "VCO Analog Supply 1", 28 RF_N "RF Negative Output(On in differential configuration, On in single-ended configuration)", 29 RF_P "RF Positive Output(On in differential configuration, Off in single-ended configuration)", 30 SEN "PLL Serial Port Enable (CMOS) Logic Input", 31 SDI "PLL Serial Port Data (CMOS) Logic Input", 32 SCK "PLL Serial Port Clock (CMOS) Logic Input", 33 LD_SDO "Lock Detect, or Serial Data, or General Purpose (CMOS) Logic Output (GPO)", 35 VCCHF "DC Power Supply for Analog Circuitry", 36 VCCPS "DC Power Supply for Analog Prescaler", 39 VCCPD "DC Power Supply for Phase Detector", 40 BIAS "External bypass decoupling for precision bias circuits.", 41 GND "Package base"

## ICM20600
designator U?
footprint ICM20600-LGA14 (LCC, 14-Pins, Body 2.50x3.00mmx0.97mm, Pitch 0.50mm, IPC Medium Density)
pins: 1 AD0/SDO "I2C slave address LSB (AD0); SPI serial data output (SDO)", 2 NC "No Connect", 3 NC "No Connect", 4 INT1 "Interrupt digital output (totem pole or open-drain)", 5 VDDIO "Digital I/O supply voltage", 6 GND "Power supply ground", 7 RESV "Reserved, connect to ground", 8 VDD "Power supply voltage", 9 INT2 "Interrupt digital output (totem pole or open-drain)", 10 FSYNC/NC "Frame synchronization digital input or No Connect", 11 REGOUT "Regulator filter capacitor connection", 12 nCS "Chip select (SPI mode only)", 13 SCL/SCLK "I2C serial clock (SCL); SPI serial clock (SCLK)", 14 SDA/SDI "I2C serial data (SDA); SPI serial data input (SDI)"

## INA226
designator U?
INA226 High-Side or Low-Side Measurement, Bi-Directional Current and Power Monitor with I / 2C Compatible Interface.
footprint INA226-VSSOP10 (TSSOP, 10-Leads, Body 3.00x3.00mm, Pitch 0.50mm, IPC Medium Density)
pins: 1 A1 "Address pin. Connect to GND, SCL, SDA, or VS.", 2 A0 "Address pin. Connect to GND, SCL, SDA, or VS.", 3 Alert "Multi-functional alert, open-drain output.", 4 SDA "Serial bus data line, open-drain input/output.", 5 SCL "Serial bus clock line, open-drain input.", 6 VS "Power supply, 2.7 V to 5.5 V.", 7 GND "Ground.", 8 VBUS "Bus voltage input.", 9 IN- "Connect to load side of shunt resistor.", 10 IN+ "Connect to supply side of shunt resistor."

## Inductor Chip
designator L?  value 100nH@400mA
Chip Inductor
footprint L0805HQ (Chip Inductor, 2-Leads, Body 2.00x1.25mm, IPC Medium Density)
footprint L1206HQ (Chip Inductor, 2-Leads, Body 3.20x1.60mm, IPC Medium Density)
footprint L0603HQ (Chip Inductor, 2-Leads, Body 1.60x0.80mm, IPC Medium Density)
footprint L0402HQ (Chip Inductor, 2-Leads, Body 1.00x0.50mm, IPC Medium Density)
pins: 1, 2

## Inductor Chip2
designator L?  value 400nH@400mA
Chip Inductor
footprint L0805USB (Common Mode Choke)
pins: 1, 2, 3, 4

## Inductor Iron
designator L?  value 10uH@1.6A
Magnetic-Core Inductor
footprint L07074 (屏蔽电感/功率电感 SMDRI74)
footprint L12127 (屏蔽电感/功率电感 SMDRI127)
footprint L04042 (贴片功率电感 MHCI04020)
footprint L06063 (贴片功率电感 MHCI06030)
footprint L10104 (屏蔽电感/功率电感 CDRH104R)
pins: 1, 2

## IPEX1
designator E?
footprint IPEX1
pins: 1 ANT, 2 GND

## IRF740
designator Q?
N-Channel  Power MOSFET
footprint IRF740-TO220
footprint IRF740-TO220(heat)
pins: 1 G, 2 D, 3 S

## IRFS3607
designator Q?
75V Single N-Channel HEXFET Power MOSFET
footprint IRFS3607-TO-263-3 (D2-PAK, 3-Pads, Body 7.93x8.70mm (max), IPC Medium Density)
pins: 1 G, 2 S, 3 D

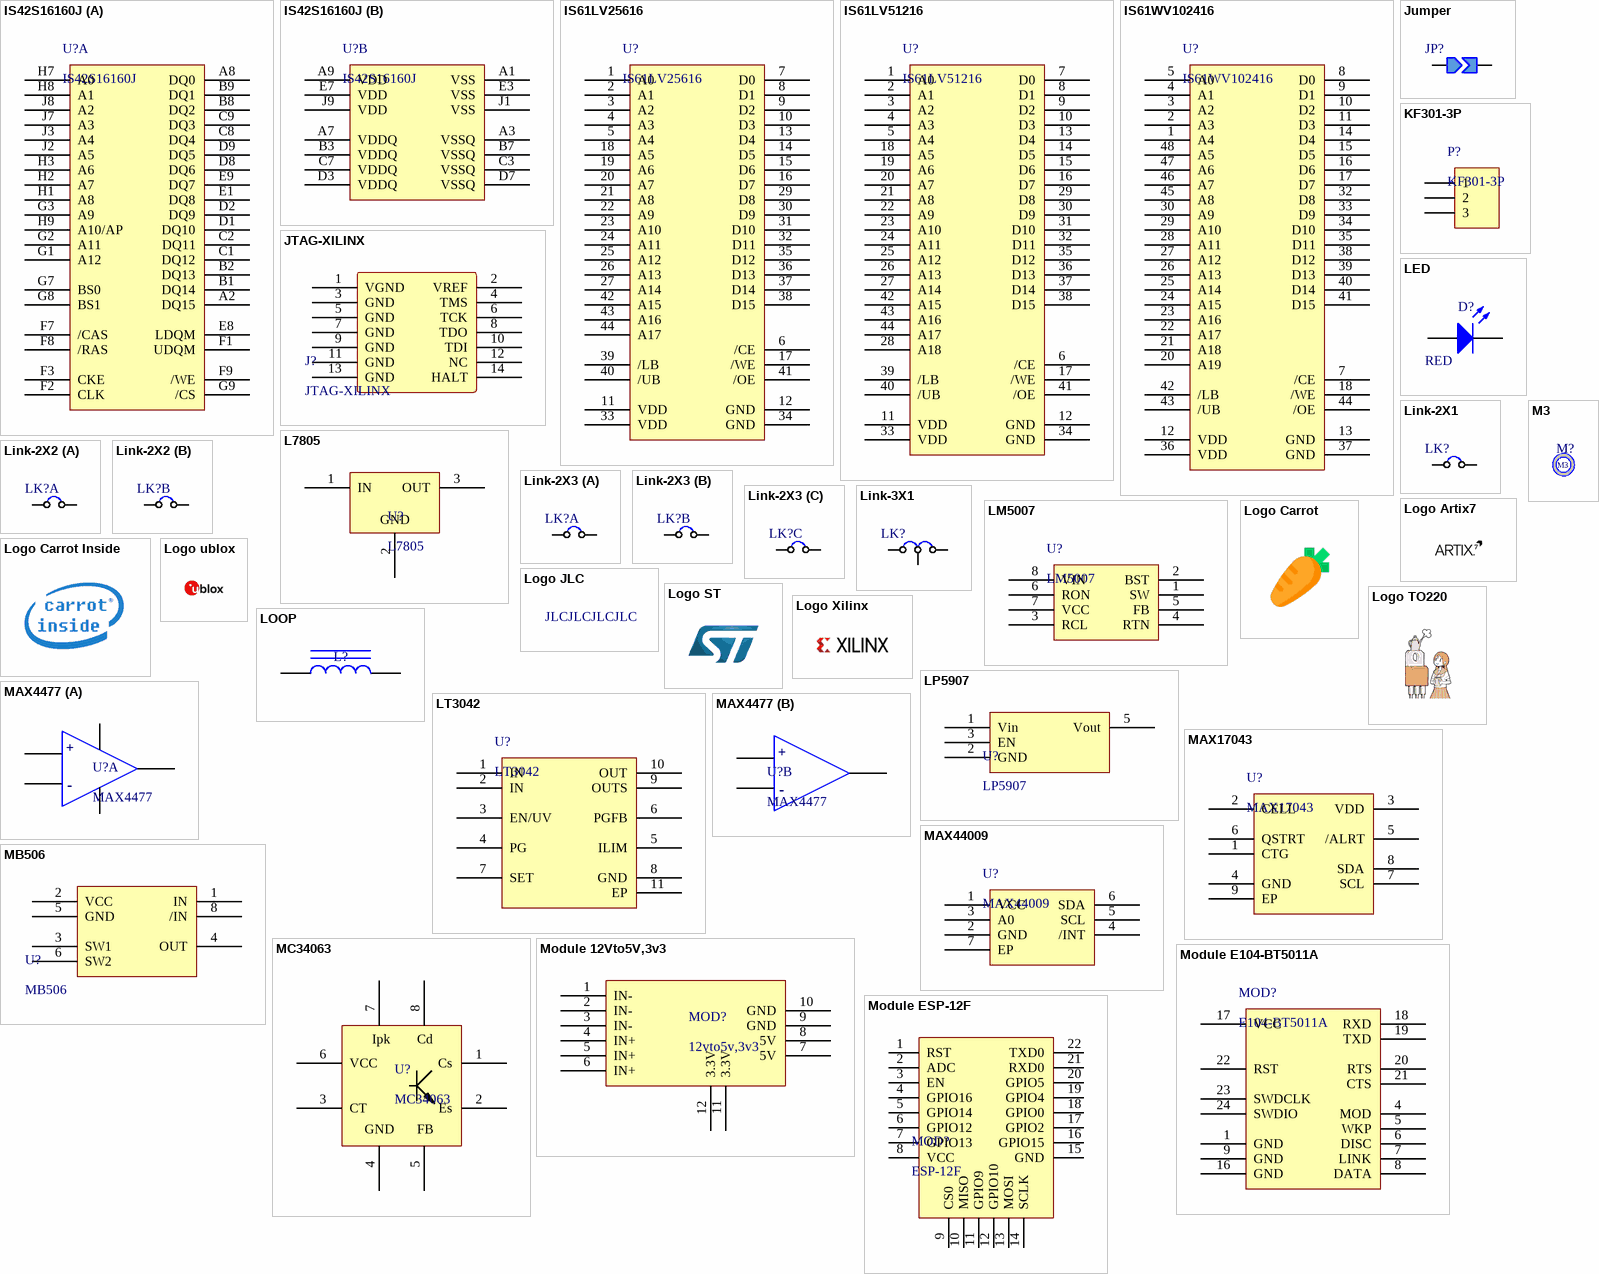
[diagram p6: symbols IS42S16160J to Module ESP-12F]

## IS42S16160J
designator U?
32Meg x 8, 16Meg x16, 256Mb SYNCHRONOUS DRAM
footprint IS42S16160J-TFBGA54 (BGA, 54-Leads, Body 8.00x8.00mmx1.20mm, Pitch 0.80mm)
part A pins: A2 DQ15 "Data Input/Output", A8 DQ0 "Data Input/Output", B1 DQ14 "Data Input/Output", B2 DQ13 "Data Input/Output", B8 DQ2 "Data Input/Output", B9 DQ1 "Data Input/Output", C1 DQ12 "Data Input/Output", C2 DQ11 "Data Input/Output", C8 DQ4 "Data Input/Output", C9 DQ3 "Data Input/Output", D1 DQ10 "Data Input/Output", D2 DQ9 "Data Input/Output", D8 DQ6 "Data Input/Output", D9 DQ5 "Data Input/Output", E1 DQ8 "Data Input/Output", E8 LDQM "Input/Output Mask", E9 DQ7 "Data Input/Output", F1 UDQM "Input/Output Mask", F2 CLK "Clock Inputs", F3 CKE "Clock Enable", F7 /CAS "Column Address Strobe", F8 /RAS "Row Address Strobe", F9 /WE "Write Enable", G1 A12 "Address", G2 A11 "Address", G3 A9 "Address", G7 BS0 "Bank Select", G8 BS1 "Bank Select", G9 /CS "Chip Select", H1 A8 "Address", H2 A7 "Address", H3 A6 "Address", H7 A0 "Address", H8 A1 "Address", H9 A10/AP "Address", J2 A5 "Address", J3 A4 "Address", J7 A3 "Address", J8 A2 "Address"
part B pins: A1 VSS "Ground", A3 VSSQ "Ground for I/O Buffer", A7 VDDQ "Power for I/O Buffer", A9 VDD "Power", B3 VDDQ "Power for I/O Buffer", B7 VSSQ "Ground for I/O Buffer", C3 VSSQ "Ground for I/O Buffer", C7 VDDQ "Power for I/O Buffer", D3 VDDQ "Power for I/O Buffer", D7 VSSQ "Ground for I/O Buffer", E3 VSS "Ground", E7 VDD "Power", J1 VSS "Ground", J9 VDD "Power"

## IS61LV25616
designator U?
256K x 16 HIGH SPEED ASYNCHRONOUS CMOS STATIC RAM WITH 3.3V SUPPLY
footprint IS61LV25616-TSOP44 (TSOP, 44-Leads, Body 18.41x10.16mm, Pitch 0.80mm, IPC Medium Density)
pins: 1 A0 "Address Inputs", 2 A1 "Address Inputs", 3 A2 "Address Inputs", 4 A3 "Address Inputs", 5 A4 "Address Inputs", 6 /CE "Chip Enable Input", 7 D0 "Data Inputs/Outputs", 8 D1 "Data Inputs/Outputs", 9 D2 "Data Inputs/Outputs", 10 D3 "Data Inputs/Outputs", 11 VDD "Power", 12 GND "Ground", 13 D4 "Data Inputs/Outputs", 14 D5 "Data Inputs/Outputs", 15 D6 "Data Inputs/Outputs", 16 D7 "Data Inputs/Outputs", 17 /WE "Write Enable Input", 18 A5 "Address Inputs", 19 A6 "Address Inputs", 20 A7 "Address Inputs", 21 A8 "Address Inputs", 22 A9 "Address Inputs", 23 A10 "Address Inputs", 24 A11 "Address Inputs", 25 A12 "Address Inputs", 26 A13 "Address Inputs", 27 A14 "Address Inputs", 29 D8 "Data Inputs/Outputs", 30 D9 "Data Inputs/Outputs", 31 D10 "Data Inputs/Outputs", 32 D11 "Data Inputs/Outputs", 33 VDD "Power", 34 GND "Ground", 35 D12 "Data Inputs/Outputs", 36 D13 "Data Inputs/Outputs", 37 D14 "Data Inputs/Outputs", 38 D15 "Data Inputs/Outputs", 39 /LB "Lower-byte Control (D0-D7)", 40 /UB "Upper-byte Control (D8-D15)", 41 /OE "Output Enable Input", 42 A15 "Address Inputs", 43 A16 "Address Inputs", 44 A17 "Address Inputs"

## IS61LV51216
designator U?
512K x 16 HIGH SPEED ASYNCHRONOUS CMOS STATIC RAM WITH 3.3V SUPPLY
footprint IS61LV51216-TSOP44 (TSOP, 44-Leads, Body 18.41x10.16mm, Pitch 0.80mm, IPC Medium Density)
pins: 1 A0 "Address Inputs", 2 A1 "Address Inputs", 3 A2 "Address Inputs", 4 A3 "Address Inputs", 5 A4 "Address Inputs", 6 /CE "Chip Enable Input", 7 D0 "Data Inputs/Outputs", 8 D1 "Data Inputs/Outputs", 9 D2 "Data Inputs/Outputs", 10 D3 "Data Inputs/Outputs", 11 VDD "Power", 12 GND "Ground", 13 D4 "Data Inputs/Outputs", 14 D5 "Data Inputs/Outputs", 15 D6 "Data Inputs/Outputs", 16 D7 "Data Inputs/Outputs", 17 /WE "Write Enable Input", 18 A5 "Address Inputs", 19 A6 "Address Inputs", 20 A7 "Address Inputs", 21 A8 "Address Inputs", 22 A9 "Address Inputs", 23 A10 "Address Inputs", 24 A11 "Address Inputs", 25 A12 "Address Inputs", 26 A13 "Address Inputs", 27 A14 "Address Inputs", 28 A18 "Address Inputs", 29 D8 "Data Inputs/Outputs", 30 D9 "Data Inputs/Outputs", 31 D10 "Data Inputs/Outputs", 32 D11 "Data Inputs/Outputs", 33 VDD "Power", 34 GND "Ground", 35 D12 "Data Inputs/Outputs", 36 D13 "Data Inputs/Outputs", 37 D14 "Data Inputs/Outputs", 38 D15 "Data Inputs/Outputs", 39 /LB "Lower-byte Control (D0-D7)", 40 /UB "Upper-byte Control (D8-D15)", 41 /OE "Output Enable Input", 42 A15 "Address Inputs", 43 A16 "Address Inputs", 44 A17 "Address Inputs"

## IS61WV102416
designator U?
1M x 16 HIGH-SPEED ASYNCHRONOUS CMOS STATIC RAM WITH 3.3V SUPPLY
footprint IS61WV1024416-TSSOP48 (TSSOP, 48-Leads, Body 12.00x18.40mm, Pitch 0.50mm, IPC Medium Density)
pins: 1 A4 "Address Inputs", 2 A3 "Address Inputs", 3 A2 "Address Inputs", 4 A1 "Address Inputs", 5 A0 "Address Inputs", 7 /CE "Chip Enable Input", 8 D0 "Data Inputs/Outputs", 9 D1 "Data Inputs/Outputs", 10 D2 "Data Inputs/Outputs", 11 D3 "Data Inputs/Outputs", 12 VDD "Power", 13 GND "Ground", 14 D4 "Data Inputs/Outputs", 15 D5 "Data Inputs/Outputs", 16 D6 "Data Inputs/Outputs", 17 D7 "Data Inputs/Outputs", 18 /WE "Write Enable Input", 20 A19 "Address Inputs", 21 A18 "Address Inputs", 22 A17 "Address Inputs", 23 A16 "Address Inputs", 24 A15 "Address Inputs", 25 A14 "Address Inputs", 26 A13 "Address Inputs", 27 A12 "Address Inputs", 28 A11 "Address Inputs", 29 A10 "Address Inputs", 30 A9 "Address Inputs", 32 D8 "Data Inputs/Outputs", 33 D9 "Data Inputs/Outputs", 34 D10 "Data Inputs/Outputs", 35 D11 "Data Inputs/Outputs", 36 VDD "Power", 37 GND "Ground", 38 D12 "Data Inputs/Outputs", 39 D13 "Data Inputs/Outputs", 40 D14 "Data Inputs/Outputs", 41 D15 "Data Inputs/Outputs", 42 /LB "Lower-byte Control (D0-D7)", 43 /UB "Upper-byte Control (D8-D15)", 44 /OE "Output Enable Input", 45 A8 "Address Inputs", 46 A7 "Address Inputs", 47 A6 "Address Inputs", 48 A5 "Address Inputs"

## JTAG-XILINX
designator J?
footprint DC3-14P
footprint DC3-14PL
pins: 1 VGND, 2 VREF, 3 GND, 4 TMS, 5 GND, 6 TCK, 7 GND, 8 TDO, 9 GND, 10 TDI, 11 GND, 12 NC, 13 GND, 14 HALT

## Jumper
designator JP?  (value not drawn)
footprint R0603 (Chip Resistor, 2-Leads, Body 1.60x0.80mm, IPC Medium Density)
footprint R0805 (Chip Resistor, 2-Leads, Body 2.00x1.25mm, IPC Medium Density)
footprint Jumper
pins: 1, 2

## KF301-3P
designator P?
螺钉式 300V/16A 接线端子
footprint KF301-3P
pins: 1, 2, 3

## L7805
designator U?
footprint L7805-TO252 (TO-252/DPAK)
pins: 1 IN, 2 GND, 3 OUT

## LED
designator D?  value RED  (hidden comment: LED)
footprint LED1206 (Chip LED, 2-Leads, Body 3.20x1.60mm, IPC Medium Density)
footprint LED0805 (Chip LED, 2-Leads, Body 2.00x1.25mm, IPC Medium Density)
footprint LED0603 (Chip LED, 2-Leads, Body 1.60x0.80mm, IPC Medium Density)
pins: 1 A, 2 K

## Link-2X1
designator LK?  (value not drawn)
footprint Link-2X1-THD
footprint Jumper
pins: 1, 2

## Link-2X2
designator LK?  (value not drawn)
footprint Link-2X2-THD
part A pins: 1, 2
part B pins: 3, 4

## Link-2X3
designator LK?  (value not drawn)
footprint Link-2X3-THD
part A pins: 1, 2
part B pins: 3, 4
part C pins: 5, 6

## Link-3X1
designator LK?  (value not drawn)
footprint Link-3X1-THD
pins: 1, 2, 3

## LM5007
designator U?
75-V, 0.5-A DC/DC Buck Converter With 80-V Integrated Power MOSFET
footprint LM5007-VSSOP8 (TSOP, 8-Leads, Body 3.00x3.00mm, Pitch 0.65mm, IPC Medium Density)
pins: 1 SW "Switching node.", 2 BST "Boost bootstrap capacitor input.", 3 RCL "Current Limit OFF-time programming pin.", 4 RTN "Circuit ground.", 5 FB "Feedback signal from regulated output.", 6 RON "On-time set pin.", 7 VCC "Output from the internal high-voltage bias regulator. VCC is nominally regulated to 7 V.", 8 VIN "Input supply voltage."

## Logo Artix7
designator LOGO?
footprint LOGO-ARTIX7

## Logo Carrot
designator LOGO?
footprint LOGO-CARROT

## Logo Carrot Inside
designator LOGO?
footprint LOGO-carrot-inside

## Logo JLC
designator LOGO?, comment JLC  (value not drawn)
footprint LOGO-JLC
text: JLCJLCJLCJLC

## Logo ST
designator LOGO?
footprint LOGO-ST

## Logo TO220
designator LOGO?
footprint LOGO-TO220

## Logo ublox
designator LOGO?
footprint LOGO-ublox

## Logo Xilinx
designator LOGO?
footprint LOGO-XILINX

## LOOP
designator L?
footprint LOOP_7X17
pins: 1, 2

## LP5907
designator U?
LP5907 250-mA, Ultra-Low-Noise, Low-IQ LDO
footprint LP5907-SOT-23-5 (SOT23, 5-Leads, Body 2.90x2.80mm, Pitch 0.95mm, IPC Medium Density)
pins: 1 Vin, 2 GND, 3 EN, 5 Vout

## LT3042
designator U?
20V, 200mA, Ultralow Noise,Ultrahigh PSRR RF Linear Regulator
footprint LT3042-MSOP10 (TSSOP, 10-Leads, Body 3.00x3.00mm, Pitch 0.50mm, Thermal Pad 1.88x1.68mm, IPC Medium Density)
pins: 1 IN "Input.", 2 IN "Input.", 3 EN/UV "Enable/UVLO.", 4 PG "Power Good.", 5 ILIM "Current Limit Programming Pin.", 6 PGFB "Power Good Feedback.", 7 SET "SET.", 8 GND "Ground.", 9 OUTS "Output Sense.", 10 OUT "Output.", 11 EP "Ground."

## M3
designator M?
footprint M3-3.2X5

## MAX4477
designator U?
Low-Noise, Low-Distortion, Wide-Band, Rail-to-Rail Op Amps
footprint MAX4477-SOIC8 (SOIC, 8-Leads, Body 4.90x3.90mm, Pitch 1.27mm, IPC Medium Density)
part A pins: 1 OUT A, 2 -IN A, 3 +IN A, 4 V-, 8 V+
part B pins: 5 +IN B, 6 -IN B, 7 OUT B
part A text: +; -
part B text: +; -

## MAX17043
designator U?
1-Cell/2-Cell Fuel Gauge with ModelGauge and Low-Battery Alert
footprint MAX17043-TDFN8 (PSON, 8-Leads, Body 2.00x3.00mm, Pitch 0.50mm, Thermal Pad 1.63x1.64mm, IPC Medium Density)
pins: 1 CTG "Connect to Ground. Connect to VSS during normal operation.", 2 CELL "Battery Voltage Input. The voltage of the cell pack is measured through this pin.", 3 VDD "Power-Supply Input. 2.5V to 4.5V input range. Connect to system power through a decoupling network. Connect a 10nF typical decoupling capacitor close to pin.", 4 GND "Ground. Connect to the negative power rail of the system.", 5 /ALRT "Alert Output. Active-low interrupt signaling low state of charge. Connect to interrupt input of the system microprocessor.", 6 QSTRT "Quick-Start Input. Allows reset of the device through hardware. Connect to GND if not used.", 7 SCL "Serial Clock Input. Input only 2-wire clock line. Connect this pin to the CLOCK signal of the 2-wire interface. This pin has a 0.2µA typical pulldown to sense disconnection.", 8 SDA "Serial Data Input/Output. Open-drain 2-wire data line. Connect this pin to the DATA signal of the 2-wire interface. This pin has a 0.2µA typical pulldown to sense disconnection.", 9 EP "Exposed Pad (TDFN only). Connect to ground."

## MAX44009
designator U?
Industry’s Lowest-Power Ambient Light Sensor with ADC
footprint MAX44009-UTDFN6 (QFN, 6-Leads, Body 2.00x2.00mm, Pitch 0.65mm, Thermal Pad 0.65x1.35mm, IPC Medium Density)
pins: 1 VCC "Power Supply", 2 GND "Ground", 3 A0 "Address Select", 4 /INT "Interrupt Output. Use an external pullup resistor.", 5 SCL "I2C Clock Bus", 6 SDA "I2C Data Bus", 7 EP "Exposed Pad. Connect EP to ground."

## MB506
designator U?
ULTRA HIGH FREQUENCY PRESCALER
footprint MB506-SOIC (SOIC, 8-Leads, Body 6.32x5.30mm, Pitch 1.27mm, IPC Medium Density)
pins: 1 IN, 2 VCC, 3 SW1, 4 OUT, 5 GND, 6 SW2, 8 /IN

## MC34063
designator U?
1.5A 峰值升压/降压/反向开关稳压器
footprint MC34063-DIP8
footprint MC34063-SOIC8 (SOP, 8-Leads, Body 4.90x3.90mm, Pitch 1.27mm, IPC Medium Density)
pins: 1 Cs, 2 Es, 3 CT, 4 GND, 5 FB, 6 VCC, 7 Ipk, 8 Cd

## Module 12Vto5V,3v3
designator MOD?, comment 12vto5v,3v3
Module 12Vto5V,3v3
footprint Module 12vto5v,3v3
pins: 1 IN-, 2 IN-, 3 IN-, 4 IN+, 5 IN+, 6 IN+, 7 5V, 8 5V, 9 GND, 10 GND, 11 3.3V, 12 3.3V

## Module E104-BT5011A
designator MOD?, comment E104-BT5011A
E104-BT5011A 是一款基于蓝牙协议 5.1 版本的串口转 BLE 蓝牙主从一体模块，体积小、功耗低，工作在 2.4GHz 频段。
footprint MODULE E104-BT5011A
footprint MODULE E104-BT5011A+
pins: 1 GND, 4 MOD, 5 WKP, 6 DISC, 7 LINK, 8 DATA, 9 GND, 16 GND, 17 VCC, 18 RXD, 19 TXD, 20 RTS, 21 CTS, 22 RST, 23 SWDCLK, 24 SWDIO

## Module ESP-12F
designator MOD?, comment ESP-12F
ESP8266 WIFI
footprint MODULE ESP-12F
footprint MODULE ESP-12F+
pins: 1 RST, 2 ADC, 3 EN, 4 GPIO16, 5 GPIO14, 6 GPIO12, 7 GPIO13, 8 VCC, 9 CS0, 10 MISO, 11 GPIO9, 12 GPIO10, 13 MOSI, 14 SCLK, 15 GND, 16 GPIO15, 17 GPIO2, 18 GPIO0, 19 GPIO4, 20 GPIO5, 21 RXD0, 22 TXD0

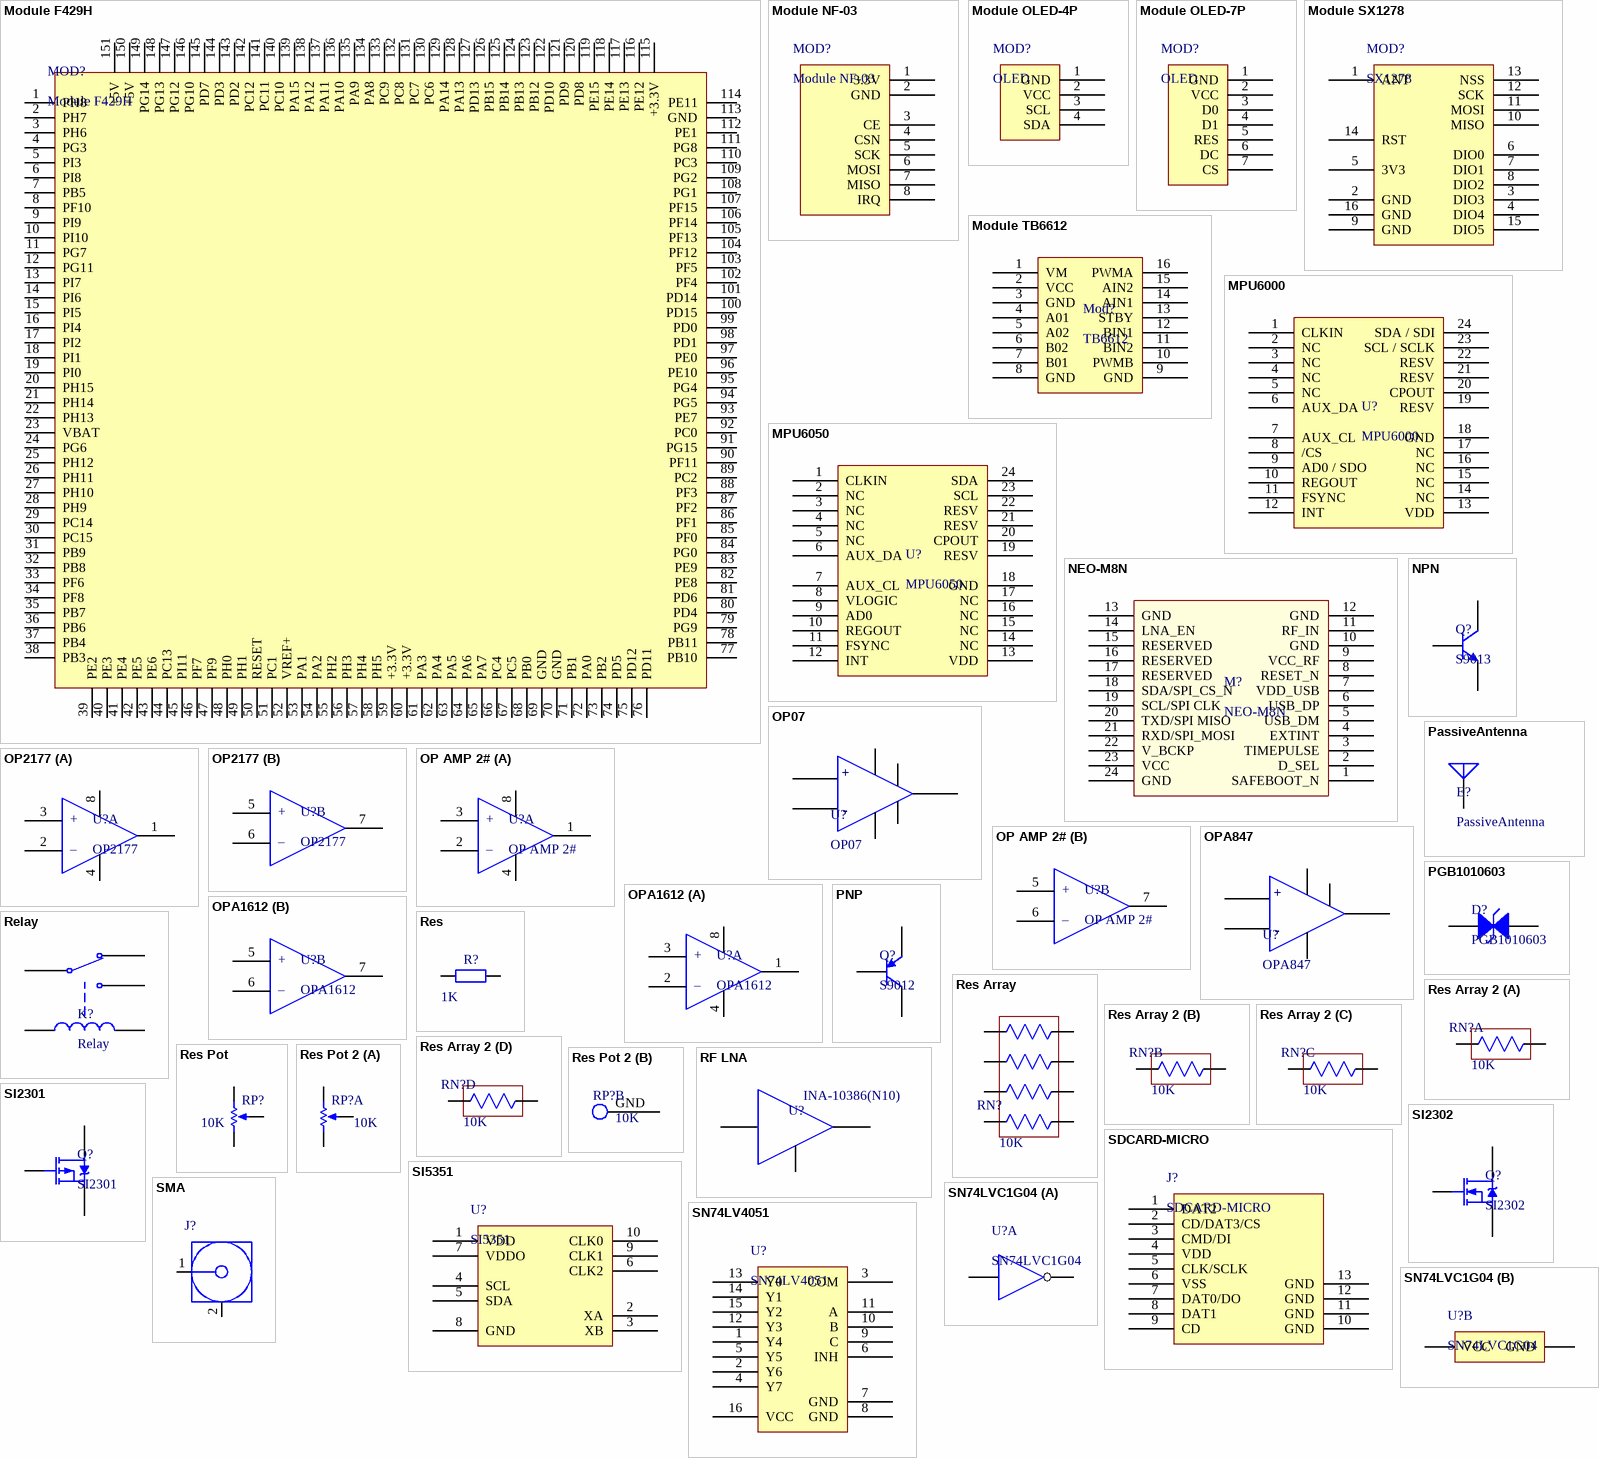
[diagram p7: symbols Module F429H to SN74LVC1G04]

## Module F429H
designator MOD?
F429核心板 YuYou
footprint Module F429-H-DIP
footprint Module F429-H-DSMT
footprint Module F429-H-SMT
pins: 1 PH8, 2 PH7, 3 PH6, 4 PG3, 5 PI3, 6 PI8, 7 PB5, 8 PF10, 9 PI9, 10 PI10, 11 PG7, 12 PG11, 13 PI7, 14 PI6, 15 PI5, 16 PI4, 17 PI2, 18 PI1, 19 PI0, 20 PH15, 21 PH14, 22 PH13, 23 VBAT, 24 PG6, 25 PH12, 26 PH11, 27 PH10, 28 PH9, 29 PC14, 30 PC15, 31 PB9, 32 PB8, 33 PF6, 34 PF8, 35 PB7, 36 PB6, 37 PB4, 38 PB3, 39 PE2, 40 PE3, 41 PE4, 42 PE5, 43 PE6, 44 PC13, 45 PI11, 46 PF7, 47 PF9, 48 PH0, 49 PH1, 50 RESET, 51 PC1, 52 VREF+, 53 PA1, 54 PA2, 55 PH2, 56 PH3, 57 PH4, 58 PH5, 59 +3.3V, 60 +3.3V, 61 PA3, 62 PA4, 63 PA5, 64 PA6, 65 PA7, 66 PC4, 67 PC5, 68 PB0, 69 GND, 70 GND, 71 PB1, 72 PA0, 73 PB2, 74 PD5, 75 PD12, 76 PD11, 77 PB10, 78 PB11, 79 PG9, 80 PD4, 81 PD6, 82 PE8, 83 PE9, 84 PG0, 85 PF0, 86 PF1, 87 PF2, 88 PF3, 89 PC2, 90 PF11, 91 PG15, 92 PC0, 93 PE7, 94 PG5, 95 PG4, 96 PE10, 97 PE0, 98 PD1, 99 PD0, 100 PD15, 101 PD14, 102 PF4, 103 PF5, 104 PF12, 105 PF13, 106 PF14, 107 PF15, 108 PG1, 109 PG2, 110 PC3, 111 PG8, 112 PE1, 113 GND, 114 PE11, 115 +3.3V, 116 PE12, 117 PE13, 118 PE14, 119 PE15, 120 PD8, 121 PD9, 122 PD10, 123 PB12, 124 PB13, 125 PB14, 126 PB15, 127 PD13, 128 PA13, 129 PA14, 130 PC6, 131 PC7, 132 PC8, 133 PC9, 134 PA8, 135 PA9, 136 PA10, 137 PA11, 138 PA12, 139 PA15, 140 PC10, 141 PC11, 142 PC12, 143 PD2, 144 PD3, 145 PD7, 146 PG10, 147 PG12, 148 PG13, 149 PG14, 150 +5V, 151 +5V

## Module NF-03
designator MOD?
Si24R1 2.4GHz
footprint MODULE NF-03
pins: 1 3.3V, 2 GND, 3 CE, 4 CSN, 5 SCK, 6 MOSI, 7 MISO, 8 IRQ

## Module OLED-4P
designator MOD?, comment OLED
OLED显示模块
footprint MODULE OLED-4P-0.96 (0.96寸4脚OLED模块)
pins: 1 GND, 2 VCC, 3 SCL, 4 SDA

## Module OLED-7P
designator MOD?, comment OLED
OLED显示模块
footprint MODULE OLED-7P-0.96 (0.96寸7脚OLED模块)
footprint MODULE OLED-7P-0.96-HDR (0.96寸7脚OLED模块)
pins: 1 GND, 2 VCC, 3 D0, 4 D1, 5 RES, 6 DC, 7 CS

## Module SX1278
designator MOD?, comment SX1278
SX1278 LoRa
footprint MODULE SX1278
pins: 1 ANT, 2 GND, 3 DIO3, 4 DIO4, 5 3V3, 6 DIO0, 7 DIO1, 8 DIO2, 9 GND, 10 MISO, 11 MOSI, 12 SCK, 13 NSS, 14 RST, 15 DIO5, 16 GND

## Module TB6612
designator Mod?, comment TB6612
A driver IC for DC motor with output transistor in LD MOS structure with low ON-resistor.
footprint Module TB6612 (A driver IC for DC motor with output transistor in LD MOS structure with low ON-resistor.)
pins: 1 VM, 2 VCC, 3 GND, 4 A01, 5 A02, 6 B02, 7 B01, 8 GND, 9 GND, 10 PWMB, 11 BIN2, 12 BIN1, 13 STBY, 14 AIN1, 15 AIN2, 16 PWMA

## MPU6000
designator U?
footprint MPU60X0-QFN24 (QFN, 24-Leads, Body 4.00x4.00mm, Pitch 0.50mm, Thermal Pad 2.60x2.60mm, IPC Medium Density)
pins: 1 CLKIN "Optional external reference clock input. Connect to GND if unused.", 2 NC "Not internally connected. May be used for PCB trace routing.", 3 NC "Not internally connected. May be used for PCB trace routing.", 4 NC "Not internally connected. May be used for PCB trace routing.", 5 NC "Not internally connected. May be used for PCB trace routing.", 6 AUX_DA "I2C master serial data, for connecting to external sensors", 7 AUX_CL "I2C Master serial clock, for connecting to external sensors", 8 /CS "SPI chip select (0=SPI mode)", 9 AD0 / SDO "I2C Slave Address LSB (AD0); SPI serial data output (SDO)", 10 REGOUT "Regulator filter capacitor connection", 11 FSYNC "Frame synchronization digital input. Connect to GND if unused.", 12 INT "Interrupt digital output (totem pole or open-drain)", 13 VDD "Power supply voltage and Digital I/O supply voltage", 14 NC "Not internally connected. May be used for PCB trace routing.", 15 NC "Not internally connected. May be used for PCB trace routing.", 16 NC "Not internally connected. May be used for PCB trace routing.", 17 NC "Not internally connected. May be used for PCB trace routing.", 18 GND "Power supply ground", 19 RESV "Reserved. Do not connect.", 20 CPOUT "Charge pump capacitor connection", 21 RESV "Reserved. Do not connect.", 22 RESV "Reserved. Do not connect.", 23 SCL / SCLK "I2C serial clock (SCL); SPI serial clock (SCLK)", 24 SDA / SDI "I2C serial data (SDA); SPI serial data input (SDI)"

## MPU6050
designator U?
footprint MPU60X0-QFN24 (QFN, 24-Leads, Body 4.00x4.00mm, Pitch 0.50mm, Thermal Pad 2.60x2.60mm, IPC Medium Density)
pins: 1 CLKIN "Optional external reference clock input. Connect to GND if unused.", 2 NC "Not internally connected. May be used for PCB trace routing.", 3 NC "Not internally connected. May be used for PCB trace routing.", 4 NC "Not internally connected. May be used for PCB trace routing.", 5 NC "Not internally connected. May be used for PCB trace routing.", 6 AUX_DA "I2C master serial data, for connecting to external sensors", 7 AUX_CL "I2C Master serial clock, for connecting to external sensors", 8 VLOGIC "Digital I/O supply voltage", 9 AD0 "I2C Slave Address LSB (AD0)", 10 REGOUT "Regulator filter capacitor connection", 11 FSYNC "Frame synchronization digital input. Connect to GND if unused.", 12 INT "Interrupt digital output (totem pole or open-drain)", 13 VDD "Power supply voltage and Digital I/O supply voltage", 14 NC "Not internally connected. May be used for PCB trace routing.", 15 NC "Not internally connected. May be used for PCB trace routing.", 16 NC "Not internally connected. May be used for PCB trace routing.", 17 NC "Not internally connected. May be used for PCB trace routing.", 18 GND "Power supply ground", 19 RESV "Reserved. Do not connect.", 20 CPOUT "Charge pump capacitor connection", 21 RESV "Reserved. Do not connect.", 22 RESV "Reserved. Do not connect.", 23 SCL "I2C serial clock (SCL)", 24 SDA "I2C serial data (SDA)"

## NEO-M8N
designator M?
footprint NEO-M8N (u-blox NEO GNSS module)
pins: 1 SAFEBOOT_N, 2 D_SEL, 3 TIMEPULSE, 4 EXTINT, 5 USB_DM, 6 USB_DP, 7 VDD_USB, 8 RESET_N, 9 VCC_RF, 10 GND, 11 RF_IN, 12 GND, 13 GND, 14 LNA_EN, 15 RESERVED, 16 RESERVED, 17 RESERVED, 18 SDA/SPI_CS_N, 19 SCL/SPI CLK, 20 TXD/SPI MISO, 21 RXD/SPI_MOSI, 22 V_BCKP, 23 VCC, 24 GND

## NPN
designator Q?, comment S9013
NPN General Purpose Amplifier
footprint TO-92 (TO, Flat Index; 3 In-Line, Axial Leads; Body Dia. 4.5mm; Leads 0.51 x 0.48 mm (max))
footprint SOT-23 (SOT23, 3-Leads, Body 2.9x1.3mm, Pitch 0.95mm, Lead Span 2.5mm, IPC High Density)
pins: B, C, E

## OP07
designator U?
footprint DIP8-300mil (DIP8,W=300mil)
pins: 1 OFFSET N1, 2 -IN, 3 +IN, 4 V-, 6 OUT A, 7 V+, 8 OFFSET N2
text: +; -

## OP2177
designator U?
Precision Low Noise, Low Input Bias Current Operational Amplifiers
footprint OP2177-SOIC8 (SOIC, 8-Leads, Body 4.90x3.90mm, Pitch 1.27mm, IPC Medium Density)
part A pins: 1 OUT A, 2 -IN A, 3 +IN A, 4 V-, 8 V+
part B pins: 5 +IN B, 6 -IN B, 7 OUT B
part A text: +; –
part B text: +; –

## OP AMP 2#
designator U?
Universal Operational Amplifiers.
footprint OPAMP-SOIC8 (SOIC, 8-Leads, Body 4.90x3.90mm, Pitch 1.27mm, IPC Medium Density)
part A pins: 1 OUT A, 2 -IN A, 3 +IN A, 4 V-, 8 V+
part B pins: 5 +IN B, 6 -IN B, 7 OUT B
part A text: +; –
part B text: +; –

## OPA847
designator U?
footprint OPA847-SOIC8 (SOIC, 8-Leads, Body 4.91x3.90mm, Pitch 1.27mm, IPC Medium Density)
pins: 2 -IN, 3 +IN, 4 V-, 6 OUT A, 7 V+, 8 /DIS
text: +; -

## OPA1612
designator U?
OPA161x SoundPlus™ High-Performance, Bipolar-Input Audio Operational Amplifiers
footprint OPA1612-SOIC8 (SOIC, 8-Leads, Body 4.90x3.90mm, Pitch 1.27mm, IPC Medium Density)
part A pins: 1 OUT A, 2 -IN A, 3 +IN A, 4 V-, 8 V+
part B pins: 5 +IN B, 6 -IN B, 7 OUT B
part A text: +; –
part B text: +; –

## PassiveAntenna
designator E?
无源天线25x25
footprint PassiveAntenna25x25 (无源天线25x25)
pins: 1

## PGB1010603
designator D?
Surface Mount Polymeric Electrostatic Discharge Suppressors
footprint PGB1010603-0603 (Chip Diode, 2-Leads, Body 1.66x0.84mm, IPC Medium Density)
pins: 1, 2

## PNP
designator Q?, comment S9012
PNP General Purpose Amplifier
footprint SOT-23 (SOT23, 3-Leads, Body 2.9x1.3mm, Pitch 0.95mm, Lead Span 2.5mm, IPC High Density)
pins: B, C, E

## Relay
designator K?
继电器
footprint RELAY-HK4100F
pins: 1, 2, 3, 4, 5

## Res
designator R?  value 1K  (hidden comment: Res)
电阻
footprint R0201 (Chip Resistor, 2-Leads, Body 0.60x0.30mm, IPC Medium Density)
footprint R0402 (Chip Resistor, 2-Leads, Body 1.00x0.50mm, IPC Medium Density)
footprint R0603 (Chip Resistor, 2-Leads, Body 1.60x0.80mm, IPC Medium Density)
footprint R0805 (Chip Resistor, 2-Leads, Body 2.00x1.25mm, IPC Medium Density)
footprint R1206 (Chip Resistor, 2-Leads, Body 3.20x1.60mm, IPC Medium Density)
footprint R1210 (Chip Resistor, 2-Leads, Body 3.20x2.50mm, IPC Medium Density)
footprint R1812 (Chip Resistor, 2-Leads, Body 4.50x3.20mm, IPC Medium Density)
footprint R2010 (Chip Resistor, 2-Leads, Body 5.00x2.50mm, IPC Medium Density)
footprint R2512 (Chip Resistor, 2-Leads, Body 6.40x3.20mm, IPC Medium Density)
pins: 1, 2

## Res Array
designator RN?  value 10K  (hidden comment: Res Array)
贴片排阻
footprint RA0603 (Res Array, Chip Array, ConvexS, 8-Leads, Pitch 0.80mm,  Body 3.20x1.60mm,  IPC Low Density)
pins: 1, 2, 3, 4, 5, 6, 7, 8

## Res Array 2
designator RN?, comment value 10K  (hidden comment: Res Array)
贴片排阻
footprint RA0603 (Res Array, Chip Array, ConvexS, 8-Leads, Pitch 0.80mm,  Body 3.20x1.60mm,  IPC Low Density)
part A pins: 1, 8
part B pins: 2, 7
part C pins: 3, 6
part D pins: 4, 5

## Res Pot
designator RP?  value 10K
电位器
footprint RP-3296W (3296W 多圈精密电位器)
footprint RP-GEAR-16*2
footprint RP-3362P (3362P 单圈精密电位器)
pins: 1 TOP, 2 TAP, 3 BOT

## Res Pot 2
designator RP?  value 10K
电位器
footprint RP-RV0932
part A pins: 1 TOP, 2 TAP, 3 BOT
part B pins: 4 GND

## RF LNA
designator U?  value INA-10386(N10)  (hidden comment: RF LNA)
MMIC
footprint SOT-86 (MMIC RF LNA)
pins: 1 IN, 2 GND, 3 OUT

## SDCARD-MICRO
designator J?
Micro SD卡座
footprint SDCARD-MICRO (Micro SD卡座)
pins: 1 DAT2, 2 CD/DAT3/CS, 3 CMD/DI, 4 VDD, 5 CLK/SCLK, 6 VSS, 7 DAT0/DO, 8 DAT1, 9 CD, 10 GND, 11 GND, 12 GND, 13 GND

## SI2301
designator Q?
P-Channel 20 V (D-S) MOSFET
footprint SI2301-SOT23 (SOT23, 3-Leads, Body 2.92x2.37mm, Pitch 0.95mm, IPC Medium Density)
pins: 1 G, 2 S, 3 D

## SI2302
designator Q?
N-Channel 20 V (D-S) MOSFET
footprint SI2302-SOT23 (SOT23, 3-Leads, Body 2.92x2.37mm, Pitch 0.95mm, IPC Medium Density)
pins: 1 G, 2 S, 3 D